# Altium schematic symbol library Amplifier_Buffer.SchLib: 7 symbols
Pins are listed as number, name and electrical type; pins without a type are passive.

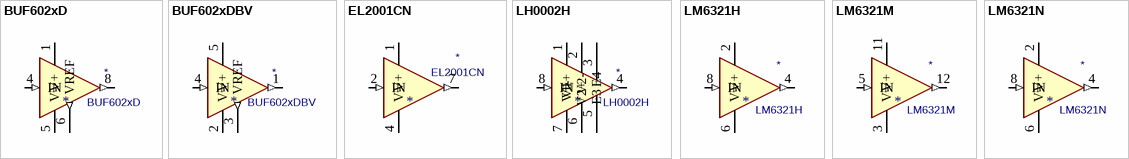
[diagram p0: symbols BUF602xD to LM6321N]

## BUF602xD
designator *  value BUF602xD
ki_keywords: buffer amplifier; ki_description: High-Speed, 1000 MHz, Closed-Loop Buffer, SOIC-8; ki_fp_filters: SOIC*3.9x4.9mm*P1.27mm*; Footprint: Package_SO:SOIC-8_3.9x4.9mm_P1.27mm; Supplier: http://www.ti.com/lit/ds/symlink/buf602.pdf
footprint SOIC-8_3.9x4.9mm_P1.27mm
pins: 1 V+ (power), 2 NC (in) hidden, 3 NC (in) hidden, 4 IN (in), 5 V- (power), 6 VREF (out), 7 NC (in) hidden, 8 (out)

## BUF602xDBV
designator *  value BUF602xDBV
ki_keywords: buffer amplifier; ki_description: High-Speed, 1000 MHz, Closed-Loop Buffer, SOT23-5; ki_fp_filters: SOT?23*; Footprint: Package_TO_SOT_SMD:SOT-23-5; Supplier: http://www.ti.com/lit/ds/symlink/buf602.pdf
footprint SOT-23-5
pins: 1 (out), 2 V- (power), 3 VREF (out), 4 IN (in), 5 V+ (power)

## EL2001CN
designator *  value EL2001CN
ki_keywords: Monolithic high slew rate, buffer amplifier; ki_description: Monolithic high slew rate, buffer amplifier, DIP-8; ki_fp_filters: DIP*W7.62mm*; Footprint: Package_DIP:DIP-8_W7.62mm; Supplier: http://www.datasheetlib.com/datasheet/677973/el2001_intersil.html#datasheet
footprint DIP-8_W7.62mm
pins: 1 V+ (power), 2 IN (in), 3 NC (in) hidden, 4 V- (power), 5 NC (in) hidden, 6 NC (in) hidden, 7 (out), 8 NC (in) hidden

## LH0002H
designator *  value LH0002H
ki_keywords: Buffer; ki_description: Wide-Band, High Current, Unity Gain Buffer Amplifier, TO-5-8; ki_fp_filters: TO?5*; Footprint: Package_TO_SOT_THT:TO-5-8; Supplier: http://www.calogic.net/pdf/LH0002_Datasheet_Rev_A.pdf
footprint TO-5-8
pins: 1 V1+ (power), 2 V2+ (power), 3 E3, 4 (out), 5 E4, 6 V2- (power), 7 V1- (power), 8 IN (in)

## LM6321H
designator *  value LM6321H
ki_keywords: single buffer; ki_description: High Speed Buffer, TO-5-8; ki_fp_filters: TO?5*; Footprint: Package_TO_SOT_THT:TO-5-8; Supplier: http://www.electronica60norte.com/mwfls/pdf/LM6221.pdf
footprint TO-5-8
pins: 1 NC (in) hidden, 2 V+ (power), 3 NC (in) hidden, 4 (out), 5 NC (in) hidden, 6 V- (power), 7 NC (in) hidden, 8 IN (in)

## LM6321M
designator *  value LM6321M
ki_keywords: single buffer; ki_description: High Speed Buffer, SOIC-14; ki_fp_filters: SOIC*3.9x8.7mm*P1.27mm*; Footprint: Package_SO:SOIC-14_3.9x8.7mm_P1.27mm; Supplier: http://www.electronica60norte.com/mwfls/pdf/LM6221.pdf
footprint SOIC-14_3.9x8.7mm_P1.27mm
pins: 1 V- hidden, 2 V- hidden, 3 V- (power), 4 NC (in) hidden, 5 IN (in), 6 V- hidden, 7 V- hidden, 8 V- hidden, 9 V- hidden, 10 NC (in) hidden, 11 V+ (power), 12 (out), 13 V- hidden, 14 V- hidden

## LM6321N
designator *  value LM6321N
ki_keywords: single buffer; ki_description: High Speed Buffer, DIP-8; ki_fp_filters: DIP*W7.62mm*; Footprint: Package_DIP:DIP-8_W7.62mm; Supplier: http://www.electronica60norte.com/mwfls/pdf/LM6221.pdf
footprint DIP-8_W7.62mm
pins: 1 NC (in) hidden, 2 V+ (power), 3 NC (in) hidden, 4 (out), 5 NC (in) hidden, 6 V- (power), 7 NC (in) hidden, 8 IN (in)